# EAGLE library part TE4/10 (library busbar)
BUS BAR 10 connections, grid 4 TE
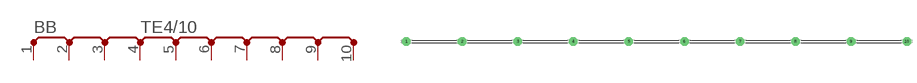
[diagram p9: symbol with the pads of TE4/10; footprint TE4/10]

Designator prefix BB

## TE4/10  [TE4/10]
1  P  pas
2  P  pas
3  P  pas
4  P  pas
5  P  pas
6  P  pas
7  P  pas
8  P  pas
9  P  pas
10  P  pas

## Footprint TE4/10 (pad centres in mm)
BUS BAR 10 connections, grid 4 TE
drill 1.6 pad 3.15 octagon: 1 -91.44,0; 2 -71.12,0; 3 -50.8,0; 4 -30.48,0; 5 -10.16,0; 6 10.16,0; 7 30.48,0; 8 50.8,0; 9 71.12,0; 10 91.44,0